# Altium footprint library PDU-UV17.PcbLib: 41 footprints (part 1 of 3)
Each footprint in its own frame and in the unit in brackets; x right, y up, seen from the top. Pads: shape width x height; smd on the part's side, far side on the other; paste and mask are expansions set on the pad; w line width, h text height; cw(c..) or ccw(c..) is an arc to the next point about the centre after c.
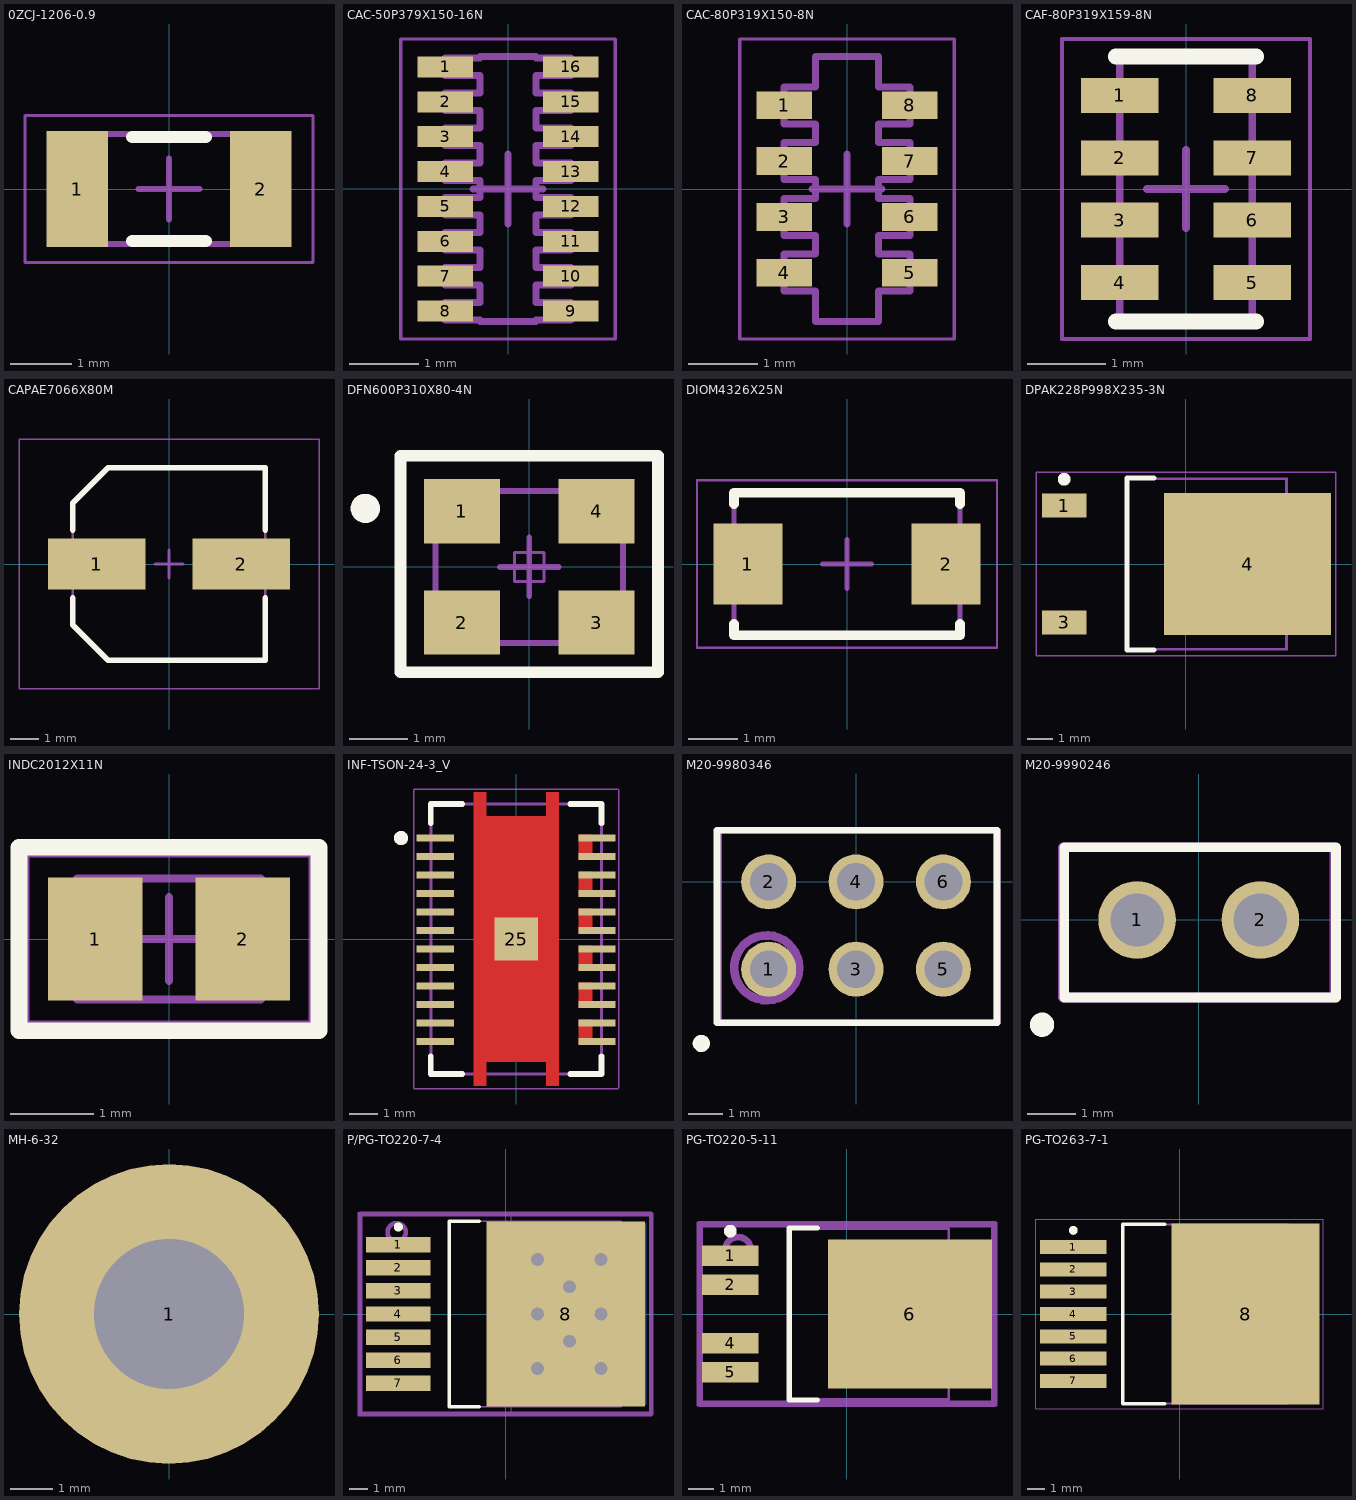
[diagram p0: the footprints below, top view; thin cyan lines are the x and y axes]

## 0ZCJ-1206-0.9 [mm]
height 0.9
pads (2):
  rect 1x1.9 smd: 1(-1.5,0) 2(1.5,0)
Top Overlay:
  lines w0.2: -0.6,-0.85 0.6,-0.85 ; -0.6,0.85 0.6,0.85
Mechanical 13:
  lines w0.1: -1.75,-0.9 1.75,-0.9 1.75,0.9 -1.75,0.9 -1.75,-0.9
Mechanical 15:
  lines w0.05: -2.35,-1.2 2.35,-1.2 2.35,1.2 -2.35,1.2 -2.35,-1.2
  lines w0.1: -0.5,0 0.5,0 ; 0,-0.5 0,0.5
3D body "CAPC3217X09N.step": height 0.9, standoff 0, extent -1.75,-0.9 1.75,0.9

## CAC-50P379X150-16N [mm] "Chip Array, ConvexE, 16-Leads, Pitch 0.50mm,  Body 3.80x1.50mm,  IPC Medium Density"
height 0.6
pads (16):
  rect 0.8x0.3 smd: 1(-0.9,1.75) 2(-0.9,1.25) 3(-0.9,0.75) 4(-0.9,0.25) 5(-0.9,-0.25) 6(-0.9,-0.75) 7(-0.9,-1.25) 8(-0.9,-1.75) 9(0.9,-1.75) 10(0.9,-1.25) 11(0.9,-0.75) 12(0.9,-0.25) 13(0.9,0.25) 14(0.9,0.75) 15(0.9,1.25) 16(0.9,1.75)
Mechanical 13:
  lines w0.1: -0.9,-1.875 -0.4,-1.875 -0.4,-1.9 0.4,-1.9 0.4,-1.875 0.9,-1.875 0.9,-1.625 0.4,-1.625 0.4,-1.375 0.9,-1.375 0.9,-1.125 0.4,-1.125 0.4,-0.875 0.9,-0.875 0.9,-0.625 0.4,-0.625 0.4,-0.375 0.9,-0.375 0.9,-0.125 0.4,-0.125 0.4,0.125 0.9,0.125 0.9,0.375 0.4,0.375 0.4,0.625 0.9,0.625 0.9,0.875 0.4,0.875 0.4,1.125 0.9,1.125 0.9,1.375 0.4,1.375 0.4,1.625 0.9,1.625 0.9,1.875 0.4,1.875 0.4,1.9 -0.4,1.9 -0.4,1.875 -0.9,1.875 -0.9,1.625 -0.4,1.625 -0.4,1.375 -0.9,1.375 -0.9,1.125 -0.4,1.125 -0.4,0.875 -0.9,0.875 -0.9,0.625 -0.4,0.625 -0.4,0.375 -0.9,0.375 -0.9,0.125 -0.4,0.125 -0.4,-0.125 -0.9,-0.125 -0.9,-0.375 -0.4,-0.375 -0.4,-0.625 -0.9,-0.625 -0.9,-0.875 -0.4,-0.875 -0.4,-1.125 -0.9,-1.125 -0.9,-1.375 -0.4,-1.375 -0.4,-1.625 -0.9,-1.625 -0.9,-1.875
Mechanical 15:
  lines w0.05: -1.54,-2.15 1.54,-2.15 1.54,2.15 -1.54,2.15 -1.54,-2.15
  lines w0.1: -0.5,0 0.5,0 ; 0,-0.5 0,0.5
3D body "CAC-50P379X150-16N.step": height 0.6, standoff 0, extent -0.875,-1.9 0.875,1.9

## CAC-80P319X150-8N [mm] "Chip Array, ConvexE, 8-Leads, Pitch 0.80mm,  Body 3.20x1.50mm,  IPC Medium Density"
height 0.6
pads (8):
  rect 0.8x0.4 smd: 1(-0.9,1.2) 2(-0.9,0.4) 3(-0.9,-0.4) 4(-0.9,-1.2) 5(0.9,-1.2) 6(0.9,-0.4) 7(0.9,0.4) 8(0.9,1.2)
Mechanical 13:
  lines w0.1: -0.9,-1.465 -0.9,-0.935 -0.45,-0.935 -0.45,-0.665 -0.9,-0.665 -0.9,-0.135 -0.45,-0.135 -0.45,0.135 -0.9,0.135 -0.9,0.665 -0.45,0.665 -0.45,0.935 -0.9,0.935 -0.9,1.465 -0.45,1.465 -0.45,1.9 0.45,1.9 0.45,1.465 0.9,1.465 0.9,0.935 0.45,0.935 0.45,0.665 0.9,0.665 0.9,0.135 0.45,0.135 0.45,-0.135 0.9,-0.135 0.9,-0.665 0.45,-0.665 0.45,-0.935 0.9,-0.935 0.9,-1.465 0.45,-1.465 0.45,-1.9 -0.45,-1.9 -0.45,-1.465 -0.9,-1.465
Mechanical 15:
  lines w0.05: -1.54,-2.15 -1.54,2.15 1.54,2.15 1.54,-2.15 -1.54,-2.15
  lines w0.1: -0.5,0 0.5,0 ; 0,-0.5 0,0.5
3D body "CAC-80P319X150-8N.step": height 0.6, standoff 0, extent -0.875,-1.675 0.875,1.675

## CAF-80P319X159-8N [mm] "Chip Array, Flat, 8-Leads, Pitch 0.80mm,  Body 3.20x1.60mm,  IPC Medium Density"
height 1
pads (8):
  rect 1x0.45 smd: 1(-0.85,1.2) 2(-0.85,0.4) 3(-0.85,-0.4) 4(-0.85,-1.2) 5(0.85,-1.2) 6(0.85,-0.4) 7(0.85,0.4) 8(0.85,1.2)
Top Overlay:
  lines w0.2: -0.9,-1.7 0.9,-1.7 ; -0.9,1.7 0.9,1.7
Mechanical 13:
  lines w0.1: -0.85,-1.675 0.85,-1.675 0.85,1.675 -0.85,1.675 -0.85,-1.675
Mechanical 15:
  lines w0.05: -1.59,-1.925 1.59,-1.925 1.59,1.925 -1.59,1.925 -1.59,-1.925
  lines w0.1: -0.5,0 0.5,0 ; 0,-0.5 0,0.5
3D body "CAF-80P319X159-8N.step": height 1, standoff 0, extent -0.925,-1.675 0.925,1.675

## CAPAE7066X80M [mm] "Aluminum Electrolytic Capacitor, Body 6.60x6.60x8.00mm, IPC Low Density"
height 8
pads (2):
  rect 3.45x1.8 smd: 1(-2.55,0) 2(2.55,0)
Top Overlay:
  lines w0.2: -3.4,-1.2 -3.4,-2.15 -2.15,-3.4 3.4,-3.4 3.4,-1.2 ; -3.4,1.2 -3.4,2.15 -2.15,3.4 3.4,3.4 3.4,1.2
Mechanical 13:
  lines w0.1: -3.4,-2.15 -3.4,2.15 -2.15,3.4 3.4,3.4 3.4,-3.4 -2.15,-3.4 -3.4,-2.15
Mechanical 15:
  lines w0.05: -5.3,-4.4 5.3,-4.4 5.3,4.4 -5.3,4.4 -5.3,-4.4
  lines w0.1: -0.5,0 0.5,0 ; 0,-0.5 0,0.5
3D body "CAPAE7066X80M.step": height 8, standoff 0, extent -3.5,-3.4 3.5,3.4

## DFN600P310X80-4N [mm] "DFN, 4-Leads, Body 2.50x3.10mm, Pitch 6.00mm, IPC Medium Density"
height 0.8
pads (4):
  rect 1.3x1.1 smd: 1(-1.15,0.95) 2(-1.15,-0.95) 3(1.15,-0.95) 4(1.15,0.95)
Top Overlay:
  circle w0.25: c-2.8,1 r0.125
  lines w0.2: -2.2,-1.8 2.2,-1.8 2.2,1.9 -2.2,1.9 -2.2,-1.8
Mechanical 13:
  lines w0.1: -1.6,-1.3 -1.6,1.3 1.6,1.3 1.6,-1.3 -1.6,-1.3
Mechanical 15:
  lines w0.05: -0.25,-0.25 -0.25,0.25 0.25,0.25 0.25,-0.25 -0.25,-0.25
  lines w0.1: -0.5,0 0.5,0 ; 0,-0.5 0,0.5
3D body: height 0.8, standoff 0, extent -1.6,-1.3 1.6,1.3

## DIOM4326X25N [mm] "Molded Diode, 2-Leads, Body 4.27x2.57mm, IPC Medium Density"
height 2.45
pads (2):
  rect 1.4x1.64 smd: 1(-2.015,0) 2(2.015,0)
Top Overlay:
  lines w0.2: -2.3,-1.22 -2.3,-1.45 2.3,-1.45 2.3,-1.22 ; -2.3,1.22 -2.3,1.45 2.3,1.45 2.3,1.22
Mechanical 13:
  lines w0.1: -2.3,-1.45 2.3,-1.45 2.3,1.45 -2.3,1.45 -2.3,-1.45
Mechanical 15:
  lines w0.05: -3.05,-1.7 3.05,-1.7 3.05,1.7 -3.05,1.7 -3.05,-1.7
  lines w0.1: -0.5,0 0.5,0 ; 0,-0.5 0,0.5
3D body "DIOM4326X25N.step": height 2.45, standoff 0, extent -2.52,-1.45 2.52,1.45

## DPAK228P998X235-3N [mm] "D-PAK, 3-Pads, Body 6.21x6.69mm (max), IPC Medium Density"
height 2.35
pads (3):
  rect 1.75x0.95 smd: 1(-4.75,2.28) 3(-4.75,-2.28)
  rect 6.5x5.55 smd: 4(2.4,0)
Top Overlay:
  circle w0.25: c-4.75,3.305 r0.125
  lines w0.2: -1.25,-3.35 -2.3,-3.35 -2.3,3.35 -1.25,3.35
Mechanical 13:
  lines w0.1: -2.3,-3.325 -2.3,3.325 3.92,3.325 3.92,-3.325 -2.3,-3.325
Mechanical 15:
  lines w0.05: -5.85,-3.575 -5.85,3.575 5.85,3.575 5.85,-3.575 -5.85,-3.575
  lines w0.1: -0.5,0 0.5,0 ; 0,-0.5 0,0.5
3D body "DPAK228P998X235-3N.step": height 2.5, standoff 0, extent -4.56,-3.325 5.42,3.325

## INDC2012X11N [mm] "Chip Inductor, 2-Leads, Body 2.00x1.25mm, IPC Medium Density"
height 1.05
pads (2):
  rect 1.13x1.47 smd: 1(-0.885,0) 2(0.885,0)
Top Overlay:
  lines w0.2: -1.8,-1.1 -1.8,1.1 1.8,1.1 1.8,-1.1 -1.8,-1.1
Mechanical 13:
  lines w0.1: -1.1,-0.725 -1.1,0.725 1.1,0.725 1.1,-0.725 -1.1,-0.725
Mechanical 15:
  lines w0.05: -1.7,-1 -1.7,1 1.7,1 1.7,-1 -1.7,-1
  lines w0.1: -0.5,0 0.5,0 ; 0,-0.5 0,0.5
3D body "INDC2012X11N.step": height 1.05, standoff 0, extent -1.1,-0.725 1.1,0.725

## INF-TSON-24-3_V [mm] "TSON, 24-Leads, Body 9.5x6mm, Pitch 0.65mm"
height 1
pads (25):
  rect 1.31x0.25 smd: 1(-2.845,3.55) 2(-2.845,2.9) 3(-2.845,2.25) 4(-2.845,1.6) 5(-2.845,0.95) 6(-2.845,0.3) 7(-2.845,-0.35) 8(-2.845,-1) 9(-2.845,-1.65) 10(-2.845,-2.3) 11(-2.845,-2.95) 12(-2.845,-3.6) 13(2.845,-3.6) 14(2.845,-2.95) 15(2.845,-2.3) 16(2.845,-1.65) 17(2.845,-1) 18(2.845,-0.35) 19(2.845,0.3) 20(2.845,0.95) 21(2.845,1.6) 22(2.845,2.25) 23(2.845,2.9) 24(2.845,3.55)
  rect 1.524x1.524 smd: 25(0,0)
Top Layer:
  rectangle: -1.5,-4.325 1.5,4.325
  rectangle: -1.5,4.325 -1.05,5.175
  rectangle: 1.05,4.325 1.5,5.175
  rectangle: -1.5,-5.175 -1.05,-4.325
  rectangle: 1.05,-5.175 1.5,-4.325
  rectangle: 2.19,2.775 2.69,3.675
  rectangle: 2.19,1.475 2.69,2.375
  rectangle: 2.19,0.175 2.69,1.075
  rectangle: 2.19,-1.125 2.69,-0.225
  rectangle: 2.19,-2.425 2.69,-1.525
  rectangle: 2.19,-3.725 2.69,-2.825
Top Overlay:
  circle w0.25: c-4.05,3.55 r0.125
  lines w0.2: -3,-4.125 -3,-4.75 -1.9,-4.75 ; -3,4.075 -3,4.75 -1.9,4.75 ; 1.9,-4.75 3,-4.75 3,-4.125 ; 1.9,4.75 3,4.75 3,4.075
Mechanical 13:
  lines w0.1: -3,-4.75 -3,4.75 3,4.75 3,-4.75 -3,-4.75
Mechanical 15:
  lines w0.05: -3.6,-5.25 -3.6,5.25 ; -3.595,-5.275 3.595,-5.275 ; -3.595,5.275 3.595,5.275 ; 3.6,-5.25 3.6,5.25
3D body: height 1, standoff 0, extent -3,-4.75 3,4.75

## M20-9980346 [mm]
pads (6):
  round 1.6 hole 1.1: 1(-2.54,-2.54) 2(-2.54,0) 3(0,-2.54) 4(0,0) 5(2.54,-2.54) 6(2.54,0)
Top Overlay:
  circle w0.25: c-4.5,-4.7 r0.125
  lines w0.2: -4.04,-4.1 -4.04,1.5 4.1,1.5 4.1,-4.1 -4.04,-4.1
Mechanical 29:
  circle w0.254: c-2.6,-2.5 r0.943
  lines w0.2: -4,-4.1 4.1,-4.1 4.1,1.5 -4,1.5 -4,-4.1
3D body "BG030-03-X-0450-0300-X-X_revG.step": height 7.13, standoff -2.91, extent -3.79,-1.3 3.83,1.2
3D body "BG030-03-X-0450-0300-X-X_revG.step": height 7.13, standoff -2.91, extent -3.79,-3.84 3.83,-1.34

## M20-9990246 [mm]
pads (2):
  round 1.6 hole 1.1: 1(-1.27,0) 2(1.27,0)
Top Overlay:
  circle w0.25: c-3.23,-2.16 r0.125
  lines w0.2: -2.77,-1.6 2.83,-1.6 2.83,1.5 -2.77,1.5 -2.77,-1.6
Mechanical 29:
  lines w0.2: -2.8,-1.6 2.8,-1.6 2.8,1.5 -2.8,1.5 -2.8,-1.6
3D body "BG030-02-X-0450-0300-X-X_revG.step": height 7.13, standoff -2.91, extent -2.51,-1.3 2.57,1.2

## MH-6-32 [mm] "#6-32 mounting hole"
pads (1):
  round 7 hole 3.5: 1(0,0)

## P/PG-TO220-7-4 [mm] "DPAK, 7-Leads, Body 10x9.25mm, Pitch 1.27mm, IPC Low Density"
height 4.4
pads (8):
  rect 3.55x0.85 smd: 1(-5.9,3.81) 2(-5.9,2.54) 3(-5.9,1.27) 4(-5.9,0) 5(-5.9,-1.27) 6(-5.9,-2.54) 7(-5.9,-3.81)
  rect 8.7x10.15 smd: 8(3.3,0)
via 5.25,0 diameter 1.27 hole 0.711
via 1.75,0 diameter 1.27 hole 0.711
via 1.75,3 diameter 1.27 hole 0.711
via 5.25,3 diameter 1.27 hole 0.711
via 3.5,1.5 diameter 1.27 hole 0.711
via 3.5,-1.5 diameter 1.27 hole 0.711
via 5.25,-3 diameter 1.27 hole 0.711
via 1.75,-3 diameter 1.27 hole 0.711
Bottom Layer:
  rectangle: -1,-5 7.75,5
Top Overlay:
  circle w0.25: c-5.9,4.785 r0.125
  lines w0.2: -1.45,-5.1 -3.1,-5.1 -3.1,5.1 -1.45,5.1
Mechanical 13:
  lines w0.1: -3.1,-5.1 -3.1,5.1 6.35,5.1 6.35,-5.1 -3.1,-5.1
Mechanical 15:
  lines w0.05: -8.125,-5.6 -8.125,5.6 0.3,5.6 0.3,-5.6 -8.125,-5.6
  lines w0.1: -0.5,0 0.5,0 ; 0,-0.5 0,0.5
Mechanical 29:
  circle w0.254: c-6,4.5 r0.5
  lines w0.254: -8,-5.5 8,-5.5 8,5.5 -8,5.5 -8,-5.5
  text ".Designator" at -3.25,-0.5 h1.52
3D body "PG-TO220-7-4.STEP": height 4.5, standoff 0, extent -7.279,-5 6.641,5

## PG-TO220-5-11 [mm] "D-PAK, 5-Pads, Body 6.21x6.69mm (max), IPC Medium Density"
height 2.35
pads (5):
  rect 2.2x0.8 smd: 1(-4.55,2.28) 2(-4.55,1.14) 4(-4.55,-1.14) 5(-4.55,-2.28)
  rect 6.4x5.8 smd: 6(2.45,0)
Top Overlay:
  circle w0.25: c-4.55,3.23 r0.125
  lines w0.2: -1.15,-3.35 -2.25,-3.35 -2.25,3.35 -1.15,3.35
Mechanical 13:
  lines w0.1: -2.25,-3.325 3.97,-3.325 3.97,3.325 -2.25,3.325 -2.25,-3.325
Mechanical 15:
  lines w0.05: -5.85,-3.575 5.85,-3.575 5.85,3.575 -5.85,3.575 -5.85,-3.575
  lines w0.1: -0.5,0 0.5,0 ; 0,-0.5 0,0.5
Mechanical 29:
  circle w0.254: c-4.25,2.5 r0.5
  lines w0.254: -5.75,-3.5 -5.75,3.5 5.75,3.5 5.75,-3.5 -5.75,-3.5
  text ".Designator" at -2.75,-0.5 h1.52
3D body "PG-TO220-5-11.STEP": height 2.3, standoff -0.1, extent -4.909,-3.25 4.91,3.25

## PG-TO263-7-1 [mm] "D2-PAK, 8-Pads, Body 7.82x8.46mm (max), IPC Medium Density"
height 4.4
pads (8):
  rect 3.8x0.8 smd: 1(-6.05,3.81) 2(-6.05,2.54) 3(-6.05,1.27) 4(-6.05,0) 5(-6.05,-1.27) 6(-6.05,-2.54) 7(-6.05,-3.81)
  rect 8.4x10.3 smd: 8(3.75,0)
Top Overlay:
  circle w0.25: c-6.05,4.76 r0.125
  lines w0.2: -0.85,-5.1 -3.25,-5.1 -3.25,5.1 -0.85,5.1
Mechanical 13:
  lines w0.1: -3.25,-5.1 6.2,-5.1 6.2,5.1 -3.25,5.1 -3.25,-5.1
Mechanical 15:
  lines w0.05: -8.175,-5.4 8.175,-5.4 8.175,5.4 -8.175,5.4 -8.175,-5.4
  lines w0.1: -0.5,0 0.5,0 ; 0,-0.5 0,0.5
3D body "PG-TO263-7-1.step": height 4.5, standoff 0, extent -7.35,-5.1 7.65,5.1